# EAGLE library part DIM144 (library con-amp2)
AMP connector
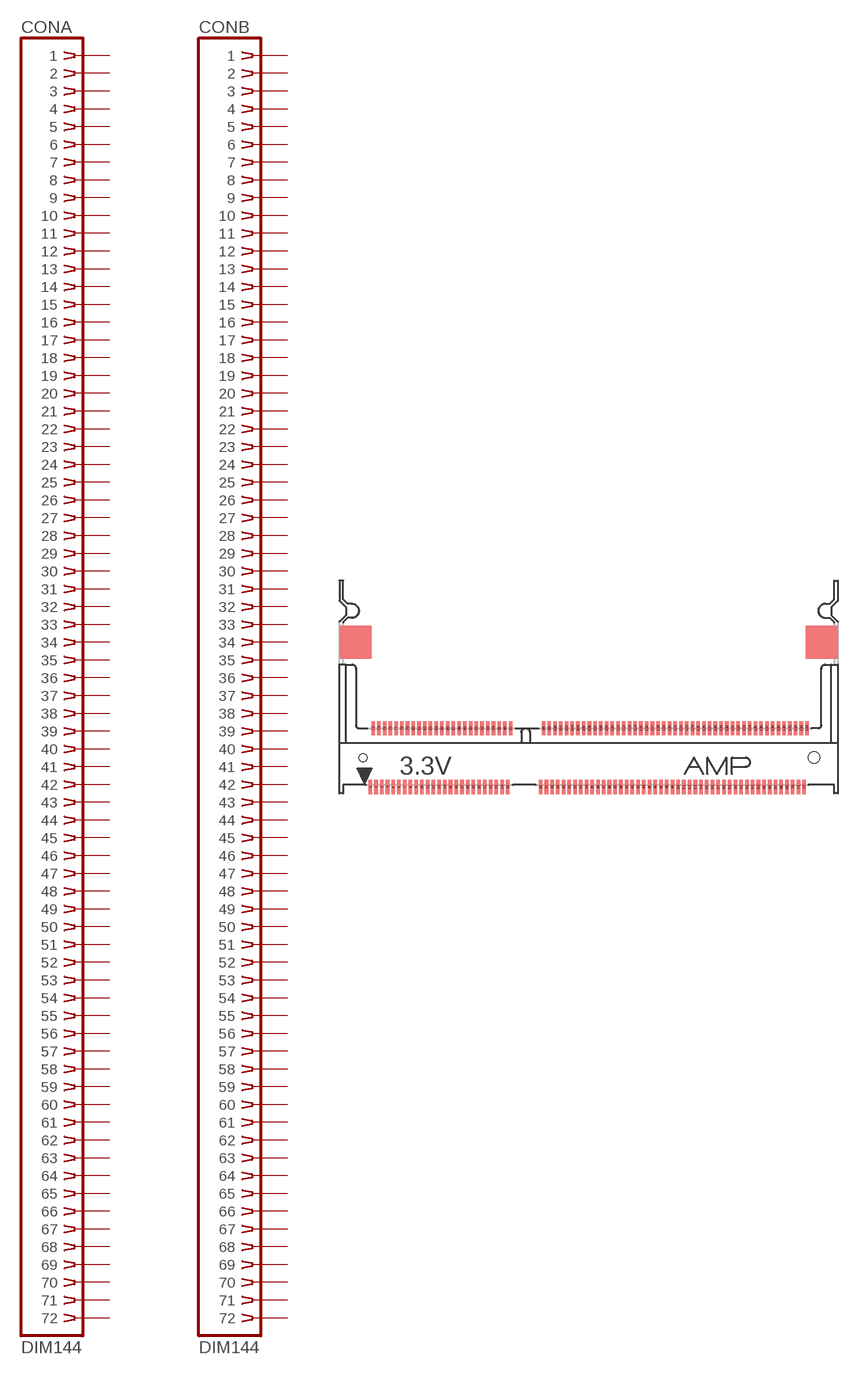
[diagram p21: symbol with the pads of 390110-1; footprint 390110-1]

Designator prefix CON; gates A=SIMM72 B=SIMM72

## DIM144  [390110-1]
1  A:1  pas
2  A:2  pas
3  A:3  pas
4  A:4  pas
5  A:5  pas
6  A:6  pas
7  A:7  pas
8  A:8  pas
9  A:9  pas
10  A:10  pas
11  A:11  pas
12  A:12  pas
13  A:13  pas
14  A:14  pas
15  A:15  pas
16  A:16  pas
17  A:17  pas
18  A:18  pas
19  A:19  pas
20  A:20  pas
21  A:21  pas
22  A:22  pas
23  A:23  pas
24  A:24  pas
25  A:25  pas
26  A:26  pas
27  A:27  pas
28  A:28  pas
29  A:29  pas
30  A:30  pas
31  A:31  pas
32  A:32  pas
33  A:33  pas
34  A:34  pas
35  A:35  pas
36  A:36  pas
37  A:37  pas
38  A:38  pas
39  A:39  pas
40  A:40  pas
41  A:41  pas
42  A:42  pas
43  A:43  pas
44  A:44  pas
45  A:45  pas
46  A:46  pas
47  A:47  pas
48  A:48  pas
49  A:49  pas
50  A:50  pas
51  A:51  pas
52  A:52  pas
53  A:53  pas
54  A:54  pas
55  A:55  pas
56  A:56  pas
57  A:57  pas
58  A:58  pas
59  A:59  pas
60  A:60  pas
61  A:61  pas
62  A:62  pas
63  A:63  pas
64  A:64  pas
65  A:65  pas
66  A:66  pas
67  A:67  pas
68  A:68  pas
69  A:69  pas
70  A:70  pas
71  A:71  pas
72  A:72  pas
73  B:1  pas
74  B:2  pas
75  B:3  pas
76  B:4  pas
77  B:5  pas
78  B:6  pas
79  B:7  pas
80  B:8  pas
81  B:9  pas
82  B:10  pas
83  B:11  pas
84  B:12  pas
85  B:13  pas
86  B:14  pas
87  B:15  pas
88  B:16  pas
89  B:17  pas
90  B:18  pas
91  B:19  pas
92  B:20  pas
93  B:21  pas
94  B:22  pas
95  B:23  pas
96  B:24  pas
97  B:25  pas
98  B:26  pas
99  B:27  pas
100  B:28  pas
101  B:29  pas
102  B:30  pas
103  B:31  pas
104  B:32  pas
105  B:33  pas
106  B:34  pas
107  B:35  pas
108  B:36  pas
109  B:37  pas
110  B:38  pas
111  B:39  pas
112  B:40  pas
113  B:41  pas
114  B:42  pas
115  B:43  pas
116  B:44  pas
117  B:45  pas
118  B:46  pas
119  B:47  pas
120  B:48  pas
121  B:49  pas
122  B:50  pas
123  B:51  pas
124  B:52  pas
125  B:53  pas
126  B:54  pas
127  B:55  pas
128  B:56  pas
129  B:57  pas
130  B:58  pas
131  B:59  pas
132  B:60  pas
133  B:61  pas
134  B:62  pas
135  B:63  pas
136  B:64  pas
137  B:65  pas
138  B:66  pas
139  B:67  pas
140  B:68  pas
141  B:69  pas
142  B:70  pas
143  B:71  pas
144  B:72  pas

## Footprint 390110-1 (pad centres in mm)
SO DIMM Socket Dual Read-Out SGRAM Memory Modules
smd 0.5 x 2: 1 -30.5,-4.1; 2 -29.7,-4.1; 3 -28.9,-4.1; 4 -28.1,-4.1; 5 -27.3,-4.1; 6 -26.5,-4.1; 7 -25.7,-4.1; 8 -24.9,-4.1; 9 -24.1,-4.1; 10 -23.3,-4.1; 11 -22.5,-4.1; 12 -21.7,-4.1; 13 -20.9,-4.1; 14 -20.1,-4.1; 15 -19.3,-4.1; 16 -18.5,-4.1; 17 -17.7,-4.1; 18 -16.9,-4.1; 19 -16.1,-4.1; 20 -15.3,-4.1; 21 -14.5,-4.1; 22 -13.7,-4.1; 23 -12.9,-4.1; 24 -12.1,-4.1; 25 -11.3,-4.1; 26 -6.7,-4.1; 27 -5.9,-4.1; 28 -5.1,-4.1; 29 -4.3,-4.1; 30 -3.5,-4.1; 31 -2.7,-4.1; 32 -1.9,-4.1; 33 -1.1,-4.1; 34 -0.3,-4.1; 35 0.5,-4.1; 36 1.3,-4.1; 37 2.1,-4.1; 38 2.9,-4.1; 39 3.7,-4.1; 40 4.5,-4.1; 41 5.3,-4.1; 42 6.1,-4.1; 43 6.9,-4.1; 44 7.7,-4.1; 45 8.5,-4.1; 46 9.3,-4.1; 47 10.1,-4.1; 48 10.9,-4.1; 49 11.7,-4.1; 50 12.5,-4.1; 51 13.3,-4.1; 52 14.1,-4.1; 53 14.9,-4.1; 54 15.7,-4.1; 55 16.5,-4.1; 56 17.3,-4.1; 57 18.1,-4.1; 58 18.9,-4.1; 59 19.7,-4.1; 60 20.5,-4.1; 61 21.3,-4.1; 62 22.1,-4.1; 63 22.9,-4.1; 64 23.7,-4.1; 65 24.5,-4.1; 66 25.3,-4.1; 67 26.1,-4.1; 68 26.9,-4.1; 69 27.7,-4.1; 70 28.5,-4.1; 71 29.3,-4.1; 72 30.1,-4.1; 73 -30.1,4.1; 74 -29.3,4.1; 75 -28.5,4.1; 76 -27.7,4.1; 77 -26.9,4.1; 78 -26.1,4.1; 79 -25.3,4.1; 80 -24.5,4.1; 81 -23.7,4.1; 82 -22.9,4.1; 83 -22.1,4.1; 84 -21.3,4.1; 85 -20.5,4.1; 86 -19.7,4.1; 87 -18.9,4.1; 88 -18.1,4.1; 89 -17.3,4.1; 90 -16.5,4.1; 91 -15.7,4.1; 92 -14.9,4.1; 93 -14.1,4.1; 94 -13.3,4.1; 95 -12.5,4.1; 96 -11.7,4.1; 97 -10.9,4.1; 98 -6.3,4.1; 99 -5.5,4.1; 100 -4.7,4.1; 101 -3.9,4.1; 102 -3.1,4.1; 103 -2.3,4.1; 104 -1.5,4.1; 105 -0.7,4.1; 106 0.1,4.1; 107 0.9,4.1; 108 1.7,4.1; 109 2.5,4.1; 110 3.3,4.1; 111 4.1,4.1; 112 4.9,4.1; 113 5.7,4.1; 114 6.5,4.1; 115 7.3,4.1; 116 8.1,4.1; 117 8.9,4.1; 118 9.7,4.1; 119 10.5,4.1; 120 11.3,4.1; 121 12.1,4.1; 122 12.9,4.1; 123 13.7,4.1; 124 14.5,4.1; 125 15.3,4.1; 126 16.1,4.1; 127 16.9,4.1; 128 17.7,4.1; 129 18.5,4.1; 130 19.3,4.1; 131 20.1,4.1; 132 20.9,4.1; 133 21.7,4.1; 134 22.5,4.1; 135 23.3,4.1; 136 24.1,4.1; 137 24.9,4.1; 138 25.7,4.1; 139 26.5,4.1; 140 27.3,4.1; 141 28.1,4.1; 142 28.9,4.1; 143 29.7,4.1; 144 30.5,4.1
hole 1.1 at -31.5,0
hole 1.6 at 31.5,0